# EAGLE library part ISL84053IBZ (library Intersil_By_element14_Batch_1)
Low Voltage, Single and Dual Supply, 8-to-1 Multiplexer, Dual 4-to-1 Multiplexer
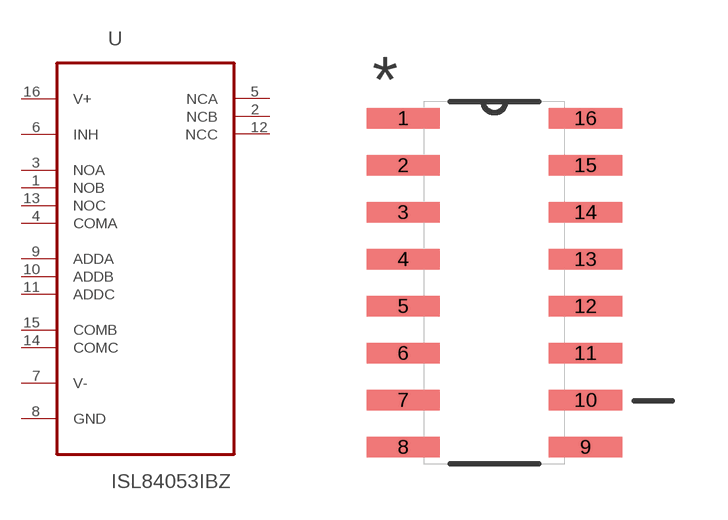
[diagram p225: symbol with the pads of SOIC127P600X175-16N; footprint SOIC127P600X175-16N]

Designator prefix U

## ISL84053IBZ (MPN: ISL84053IBZ; OC_FARNELL: 1561991; OC_NEWARK: 61J6775; PACKAGE: SOIC-16; SUPPLIER: INTERSIL)  [SOIC127P600X175-16N]
1  NOB  pas
2  NCB  pas
3  NOA  pas
4  COMA  pas
5  NCA  pas
6  INH  in
7  V-  pwr
8  GND  pas
9  ADDA  in
10  ADDB  in
11  ADDC  in
12  NCC  pas
13  NOC  pas
14  COMC  pas
15  COMB  pas
16  V+  pwr

## Footprint SOIC127P600X175-16N (pad centres in mm)
smd 1.981 x 0.559: 1 -2.464,4.445; 2 -2.464,3.175; 3 -2.464,1.905; 4 -2.464,0.635; 5 -2.464,-0.635; 6 -2.464,-1.905; 7 -2.464,-3.175; 8 -2.464,-4.445; 9 2.464,-4.445; 10 2.464,-3.175; 11 2.464,-1.905; 12 2.464,-0.635; 13 2.464,0.635; 14 2.464,1.905; 15 2.464,3.175; 16 2.464,4.445